# Altium footprint library Lib_lhy - 副本.PcbLib: 38 footprints (part 3 of 3)
Each footprint in its own frame and in the unit in brackets; x right, y up, seen from the top. Pads: shape width x height; smd on the part's side, far side on the other; paste and mask are expansions set on the pad; w line width, h text height; cw(c..) or ccw(c..) is an arc to the next point about the centre after c.
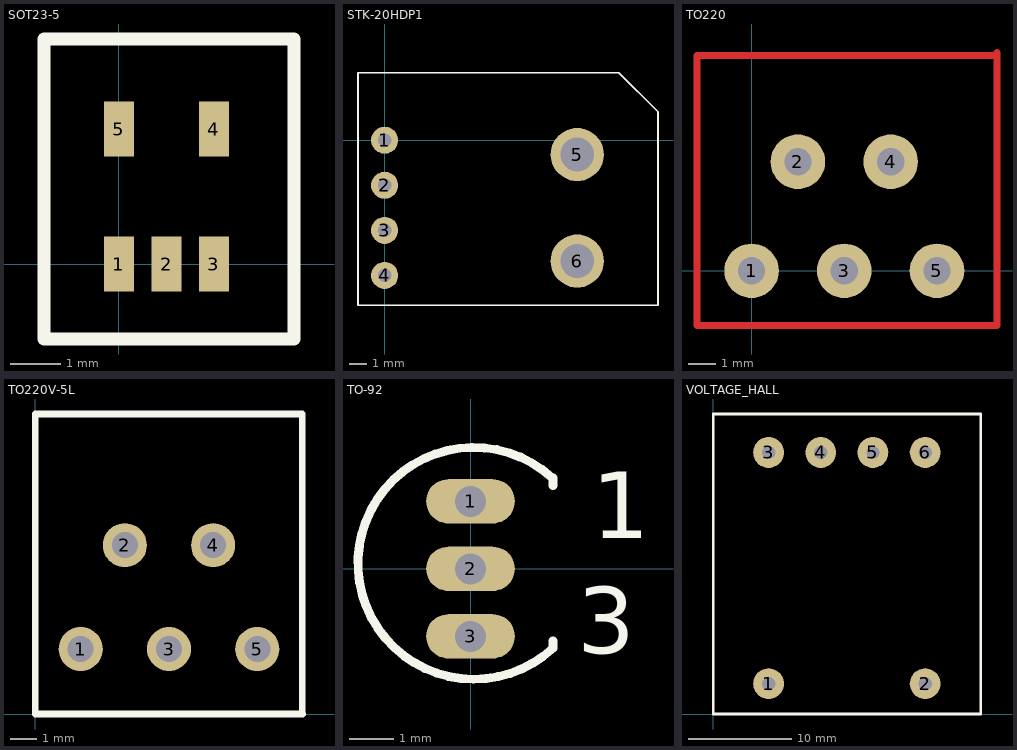
[diagram p2: the footprints below, top view; thin cyan lines are the x and y axes]

## SOT23-5 [mm]
pads (5):
  rect 0.6x1.1 smd: 1(0,0) 2(0.95,0) 3(1.9,0) 4(1.9,2.7) 5(0,2.7)
Top Overlay:
  lines w0.254: -1.5,-1.5 3.5,-1.5 3.5,4.5 -1.5,4.5 -1.5,-1.5

## STK-20HDP1 [mil]
pads (6):
  round 60 hole 30: 1(0,0) 2(0,-100) 3(0,-200) 4(0,-300)
  round 118.11 hole 74.8: 5(427.17,-31.89) 6(427.17,-268.11)
Top Overlay:
  lines w3.94: -59.06,-366.14 -59.06,149.61 519.69,149.61 606.3,62.99 606.3,-366.14 -59.06,-366.14

## TO220 [mm]
pads (5):
  round 2 hole 1: 1(0,0) 2(1.7,4) 3(3.4,0) 4(5.1,4) 5(6.8,0)
Top Layer:
  lines w0.254: -2,-2 9,-2 9,8 8.9,7.9 -2,7.9 -2,-2

## TO220V-5L [mm]
pads (5):
  round 1.7 hole 1: 1(1.75,2.5) 2(3.45,6.5) 3(5.15,2.5) 4(6.85,6.5) 5(8.55,2.5)
Top Overlay:
  lines w0.254: 10.287,0 10.287,11.55 0,11.55 0,0 10.3,0

## TO-92 [mm]
pads (3):
  oval 2x1 hole 0.7: 1(0,1.524) 2(0,0) 3(0,-1.524)
Top Overlay:
  lines w0.2: 1.833,2.064 ccw(c0.077,0.124) 1.858,-1.793 1.858,-1.623 ; 1.858,1.877 1.858,2.047
  text "3" at 2.413,-1.905 h1.5
  text "1" at 2.732,0.687 h1.5

## VOLTAGE_HALL [mm]
pads (6):
  round 3 hole 1.3: 1(5.383,2.977) 2(20.623,2.977) 3(5.383,25.477) 4(10.463,25.477) 5(15.543,25.477) 6(20.623,25.477)
Top Overlay:
  lines w0.254: 0,0.026 0,29.223 26.032,29.223 26.032,0.023 0.003,0.023